# Altium integrated library MIPOT_MiP_Series.IntLib: 10 symbols
Pins are listed as number, name and electrical type; pins without a type are passive.

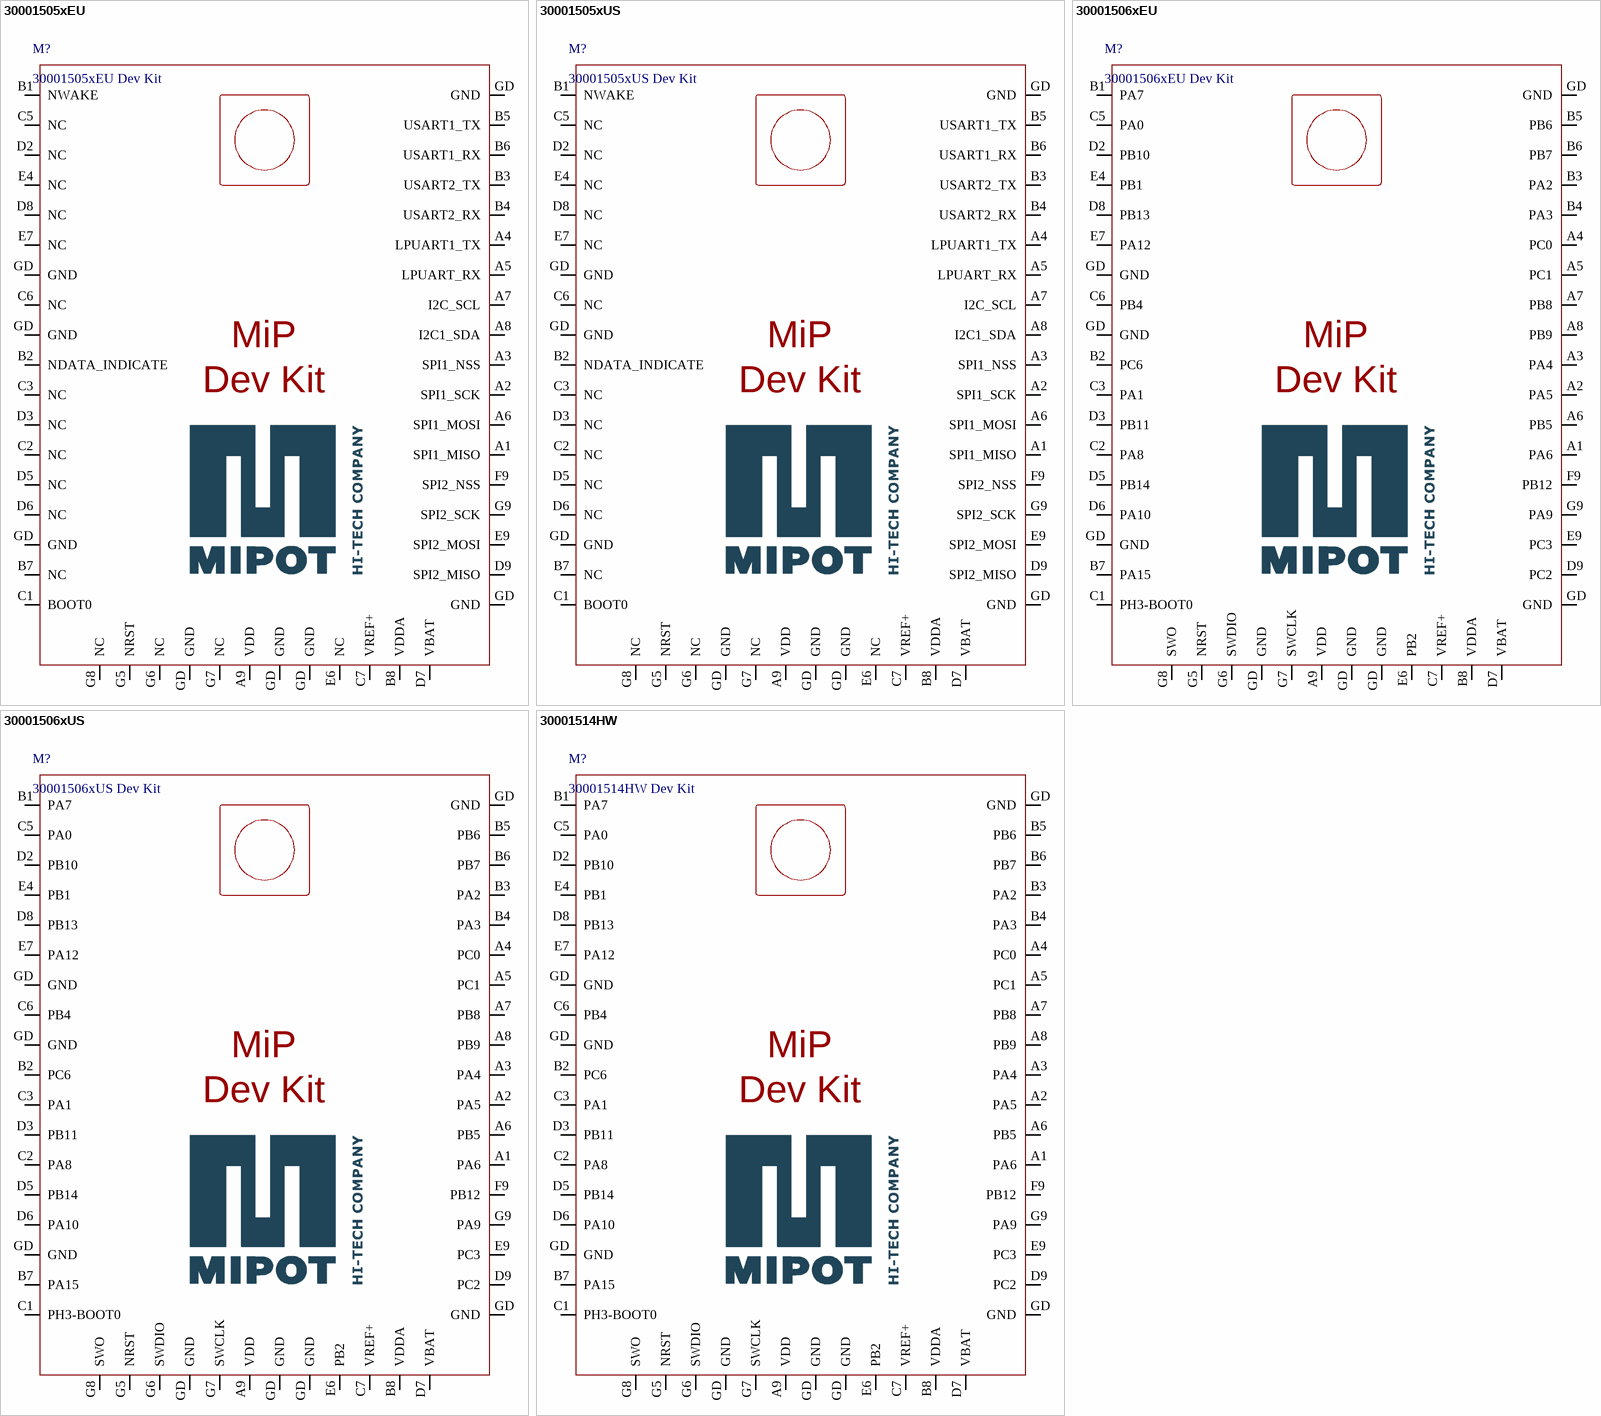
[diagram p0: symbols 30001505xEU to 30001514HW]

## 30001505xEU
designator M?, comment 30001505xEU Dev Kit
Wireless Protocol Modules MiP Series 32001505xEU Family Dev Kit; Manufacturer: MIPOT; ClassName: Dev Kit; Published: 2024
footprint 32001495_R2 (Dev Kit Mip + 2x WURTH 61301221821 + 1x WURTH 61301821821)
pins: A1 SPI1_MISO, A2 SPI1_SCK, A3 SPI1_NSS, A4 LPUART1_TX, A5 LPUART_RX, A6 SPI1_MOSI, A7 I2C_SCL, A8 I2C1_SDA, A9 VDD, B1 NWAKE, B2 NDATA_INDICATE, B3 USART2_TX, B4 USART2_RX, B5 USART1_TX, B6 USART1_RX, B7 NC, B8 VDDA, C1 BOOT0, C2 NC, C3 NC, C5 NC, C6 NC, C7 VREF+, D2 NC, D3 NC, D5 NC, D6 NC, D7 VBAT, D8 NC, D9 SPI2_MISO, E4 NC, E6 NC, E7 NC, E9 SPI2_MOSI, F9 SPI2_NSS, G5 NRST, G6 NC, G7 NC, G8 NC, G9 SPI2_SCK, GD GND, GD GND, GD GND, GD GND, GD GND, GD GND, GD GND, GD GND
text: MiP

## 30001505xUS
designator M?, comment 30001505xUS Dev Kit
Wireless Protocol Modules MiP Series 32001505xUS Family Dev Kit; Manufacturer: MIPOT; ClassName: Dev Kit; Published: 2024
footprint 32001495_R2 (Dev Kit Mip + 2x WURTH 61301221821 + 1x WURTH 61301821821)
pins: A1 SPI1_MISO, A2 SPI1_SCK, A3 SPI1_NSS, A4 LPUART1_TX, A5 LPUART_RX, A6 SPI1_MOSI, A7 I2C_SCL, A8 I2C1_SDA, A9 VDD, B1 NWAKE, B2 NDATA_INDICATE, B3 USART2_TX, B4 USART2_RX, B5 USART1_TX, B6 USART1_RX, B7 NC, B8 VDDA, C1 BOOT0, C2 NC, C3 NC, C5 NC, C6 NC, C7 VREF+, D2 NC, D3 NC, D5 NC, D6 NC, D7 VBAT, D8 NC, D9 SPI2_MISO, E4 NC, E6 NC, E7 NC, E9 SPI2_MOSI, F9 SPI2_NSS, G5 NRST, G6 NC, G7 NC, G8 NC, G9 SPI2_SCK, GD GND, GD GND, GD GND, GD GND, GD GND, GD GND, GD GND, GD GND
text: MiP

## 30001506xEU
designator M?, comment 30001506xEU Dev Kit
Wireless Protocol Modules MiP Series 32001506xEU Family Dev Kit; Manufacturer: MIPOT; ClassName: Dev Kit; Published: 2024
footprint 32001495_R2 (Dev Kit Mip + 2x WURTH 61301221821 + 1x WURTH 61301821821)
pins: A1 PA6, A2 PA5, A3 PA4, A4 PC0, A5 PC1, A6 PB5, A7 PB8, A8 PB9, A9 VDD, B1 PA7, B2 PC6, B3 PA2, B4 PA3, B5 PB6, B6 PB7, B7 PA15, B8 VDDA, C1 PH3-BOOT0, C2 PA8, C3 PA1, C5 PA0, C6 PB4, C7 VREF+, D2 PB10, D3 PB11, D5 PB14, D6 PA10, D7 VBAT, D8 PB13, D9 PC2, E4 PB1, E6 PB2, E7 PA12, E9 PC3, F9 PB12, G5 NRST, G6 SWDIO, G7 SWCLK, G8 SWO, G9 PA9, GD GND, GD GND, GD GND, GD GND, GD GND, GD GND, GD GND, GD GND
text: MiP

## 30001506xUS
designator M?, comment 30001506xUS Dev Kit
Wireless Protocol Modules MiP Series 32001506xUS Family Dev Kit; Manufacturer: MIPOT; ClassName: Dev Kit; Published: 2024
footprint 32001495_R2 (Dev Kit Mip + 2x WURTH 61301221821 + 1x WURTH 61301821821)
pins: A1 PA6, A2 PA5, A3 PA4, A4 PC0, A5 PC1, A6 PB5, A7 PB8, A8 PB9, A9 VDD, B1 PA7, B2 PC6, B3 PA2, B4 PA3, B5 PB6, B6 PB7, B7 PA15, B8 VDDA, C1 PH3-BOOT0, C2 PA8, C3 PA1, C5 PA0, C6 PB4, C7 VREF+, D2 PB10, D3 PB11, D5 PB14, D6 PA10, D7 VBAT, D8 PB13, D9 PC2, E4 PB1, E6 PB2, E7 PA12, E9 PC3, F9 PB12, G5 NRST, G6 SWDIO, G7 SWCLK, G8 SWO, G9 PA9, GD GND, GD GND, GD GND, GD GND, GD GND, GD GND, GD GND, GD GND
text: MiP

## 30001514HW
designator M?, comment 30001514HW Dev Kit
Wireless Protocol Modules MiP Series 32001514HW Dev Kit; Manufacturer: MIPOT; ClassName: Dev Kit; Published: 2024
footprint 32001495_R2 (Dev Kit Mip + 2x WURTH 61301221821 + 1x WURTH 61301821821)
pins: A1 PA6, A2 PA5, A3 PA4, A4 PC0, A5 PC1, A6 PB5, A7 PB8, A8 PB9, A9 VDD, B1 PA7, B2 PC6, B3 PA2, B4 PA3, B5 PB6, B6 PB7, B7 PA15, B8 VDDA, C1 PH3-BOOT0, C2 PA8, C3 PA1, C5 PA0, C6 PB4, C7 VREF+, D2 PB10, D3 PB11, D5 PB14, D6 PA10, D7 VBAT, D8 PB13, D9 PC2, E4 PB1, E6 PB2, E7 PA12, E9 PC3, F9 PB12, G5 NRST, G6 SWDIO, G7 SWCLK, G8 SWO, G9 PA9, GD GND, GD GND, GD GND, GD GND, GD GND, GD GND, GD GND, GD GND
text: MiP

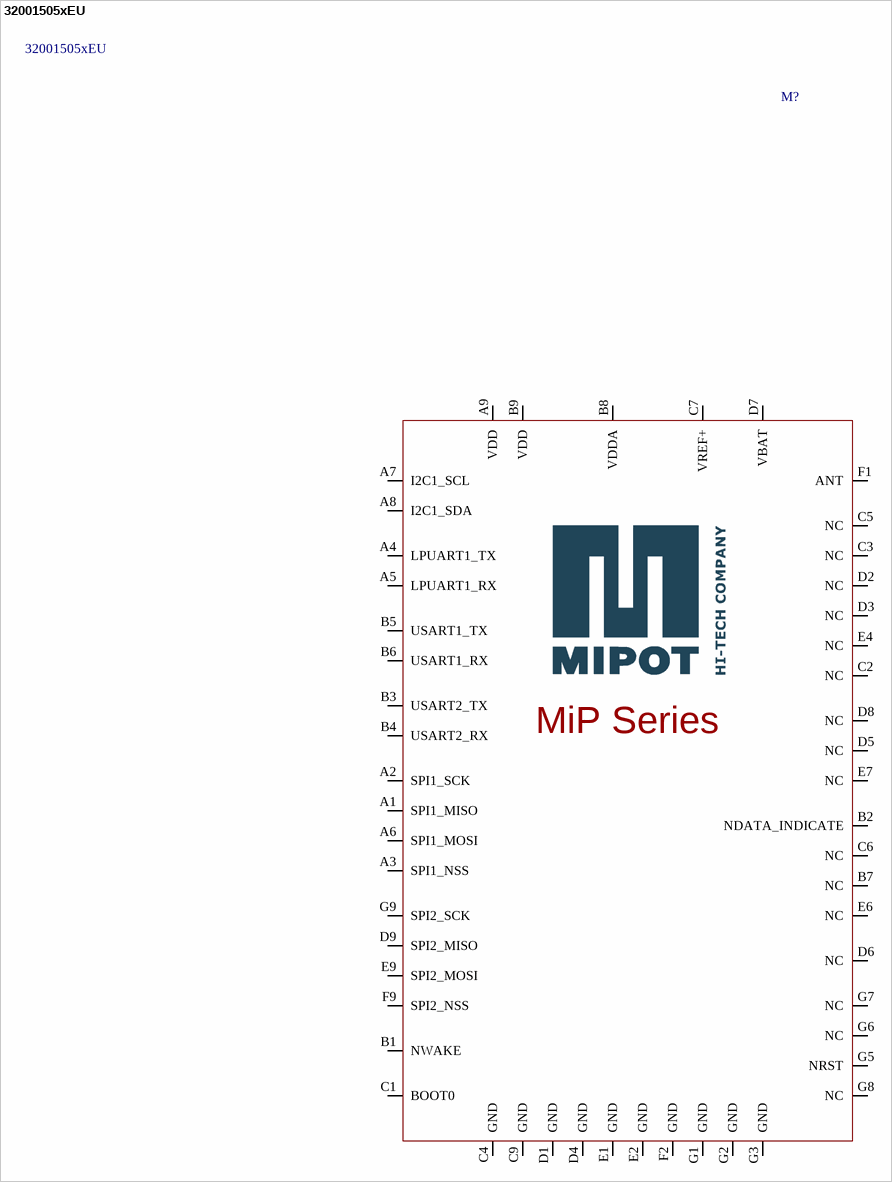
[diagram p1: symbol 32001505xEU]

## 32001505xEU
designator M?
Wireless Protocol Modules MiP Series 32001505xEU Family; Manufacturer: MIPOT; Published: 2024; ClassName: Wireless Modules
footprint 32001514_R2 (MIPOT MiP Series LGA)
pins: A1 SPI1_MISO, A2 SPI1_SCK, A3 SPI1_NSS, A4 LPUART1_TX, A5 LPUART1_RX, A6 SPI1_MOSI, A7 I2C1_SCL, A8 I2C1_SDA, A9 VDD (power), B1 NWAKE, B2 NDATA_INDICATE, B3 USART2_TX, B4 USART2_RX, B5 USART1_TX, B6 USART1_RX, B7 NC, B8 VDDA (power), B9 VDD (power), C1 BOOT0, C2 NC, C3 NC, C4 GND (power), C5 NC, C6 NC, C7 VREF+, C9 GND (power), D1 GND (power), D2 NC, D3 NC, D4 GND (power), D5 NC, D6 NC, D7 VBAT, D8 NC, D9 SPI2_MISO, E1 GND (power), E2 GND (power), E4 NC, E6 NC, E7 NC, E9 SPI2_MOSI, F1 ANT, F2 GND (power), F9 SPI2_NSS, G1 GND (power), G2 GND (power), G3 GND (power), G5 NRST, G6 NC, G7 NC, G8 NC, G9 SPI2_SCK
text: MiP Series

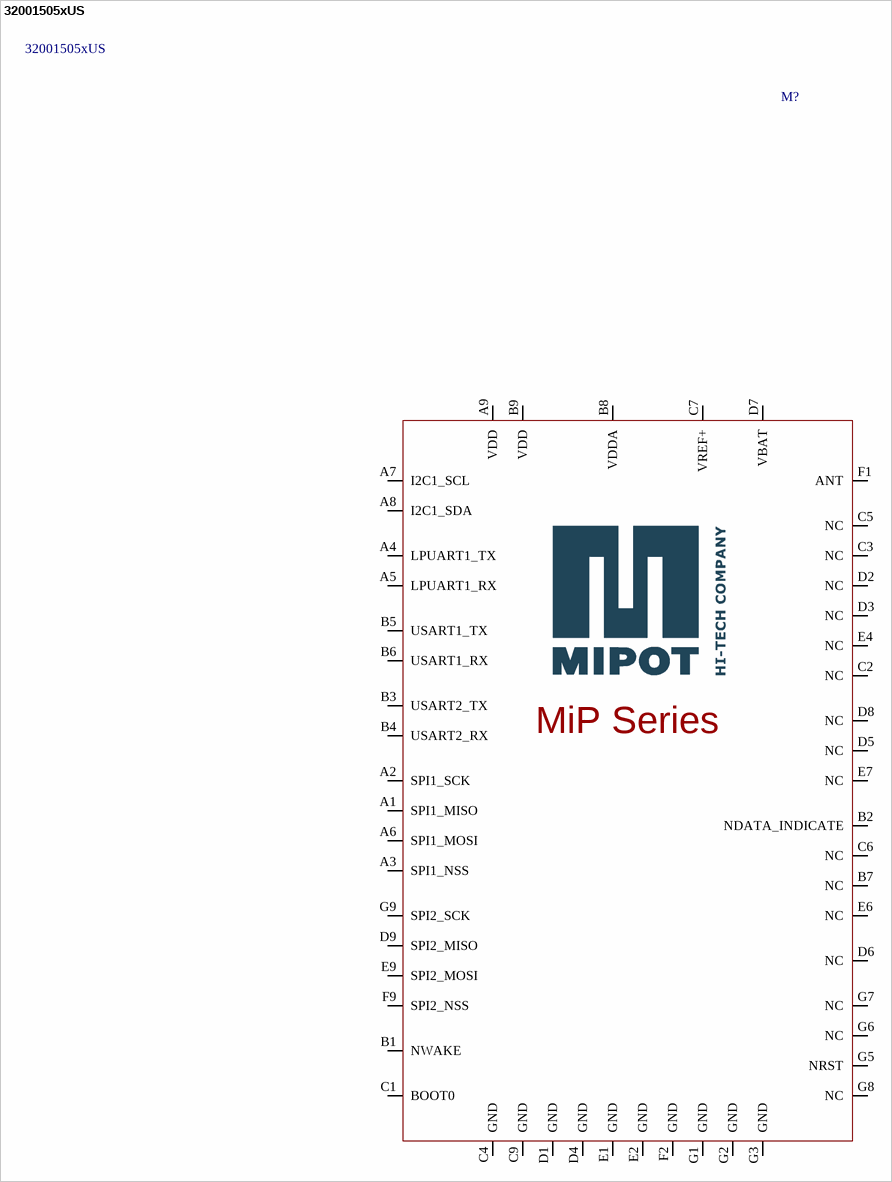
[diagram p2: symbol 32001505xUS]

## 32001505xUS
designator M?
Wireless Protocol Modules MiP Series 32001505xUS Family; Manufacturer: MIPOT; Published: 2024; ClassName: Wireless Modules
footprint 32001514_R2 (MIPOT MiP Series LGA)
pins: A1 SPI1_MISO, A2 SPI1_SCK, A3 SPI1_NSS, A4 LPUART1_TX, A5 LPUART1_RX, A6 SPI1_MOSI, A7 I2C1_SCL, A8 I2C1_SDA, A9 VDD (power), B1 NWAKE, B2 NDATA_INDICATE, B3 USART2_TX, B4 USART2_RX, B5 USART1_TX, B6 USART1_RX, B7 NC, B8 VDDA (power), B9 VDD (power), C1 BOOT0, C2 NC, C3 NC, C4 GND (power), C5 NC, C6 NC, C7 VREF+, C9 GND (power), D1 GND (power), D2 NC, D3 NC, D4 GND (power), D5 NC, D6 NC, D7 VBAT, D8 NC, D9 SPI2_MISO, E1 GND (power), E2 GND (power), E4 NC, E6 NC, E7 NC, E9 SPI2_MOSI, F1 ANT, F2 GND (power), F9 SPI2_NSS, G1 GND (power), G2 GND (power), G3 GND (power), G5 NRST, G6 NC, G7 NC, G8 NC, G9 SPI2_SCK
text: MiP Series

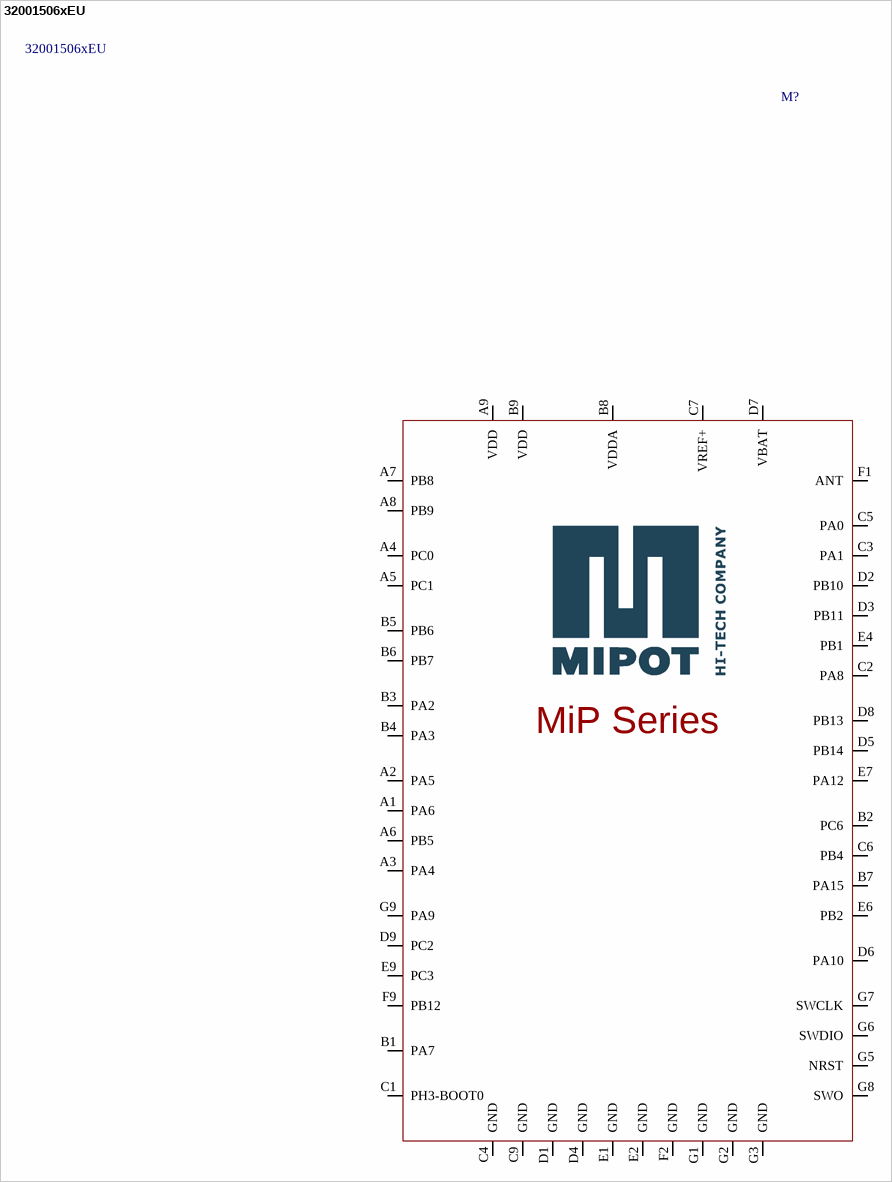
[diagram p3: symbol 32001506xEU]

## 32001506xEU
designator M?
Wireless Protocol Modules MiP Series 32001506xEU Family; Manufacturer: MIPOT; Published: 2024; ClassName: Wireless Modules
footprint 32001514_R2 (MIPOT MiP Series LGA)
pins: A1 PA6, A2 PA5, A3 PA4, A4 PC0, A5 PC1, A6 PB5, A7 PB8, A8 PB9, A9 VDD (power), B1 PA7, B2 PC6, B3 PA2, B4 PA3, B5 PB6, B6 PB7, B7 PA15, B8 VDDA (power), B9 VDD (power), C1 PH3-BOOT0, C2 PA8, C3 PA1, C4 GND (power), C5 PA0, C6 PB4, C7 VREF+, C9 GND (power), D1 GND (power), D2 PB10, D3 PB11, D4 GND (power), D5 PB14, D6 PA10, D7 VBAT, D8 PB13, D9 PC2, E1 GND (power), E2 GND (power), E4 PB1, E6 PB2, E7 PA12, E9 PC3, F1 ANT, F2 GND (power), F9 PB12, G1 GND (power), G2 GND (power), G3 GND (power), G5 NRST, G6 SWDIO, G7 SWCLK, G8 SWO, G9 PA9
text: MiP Series

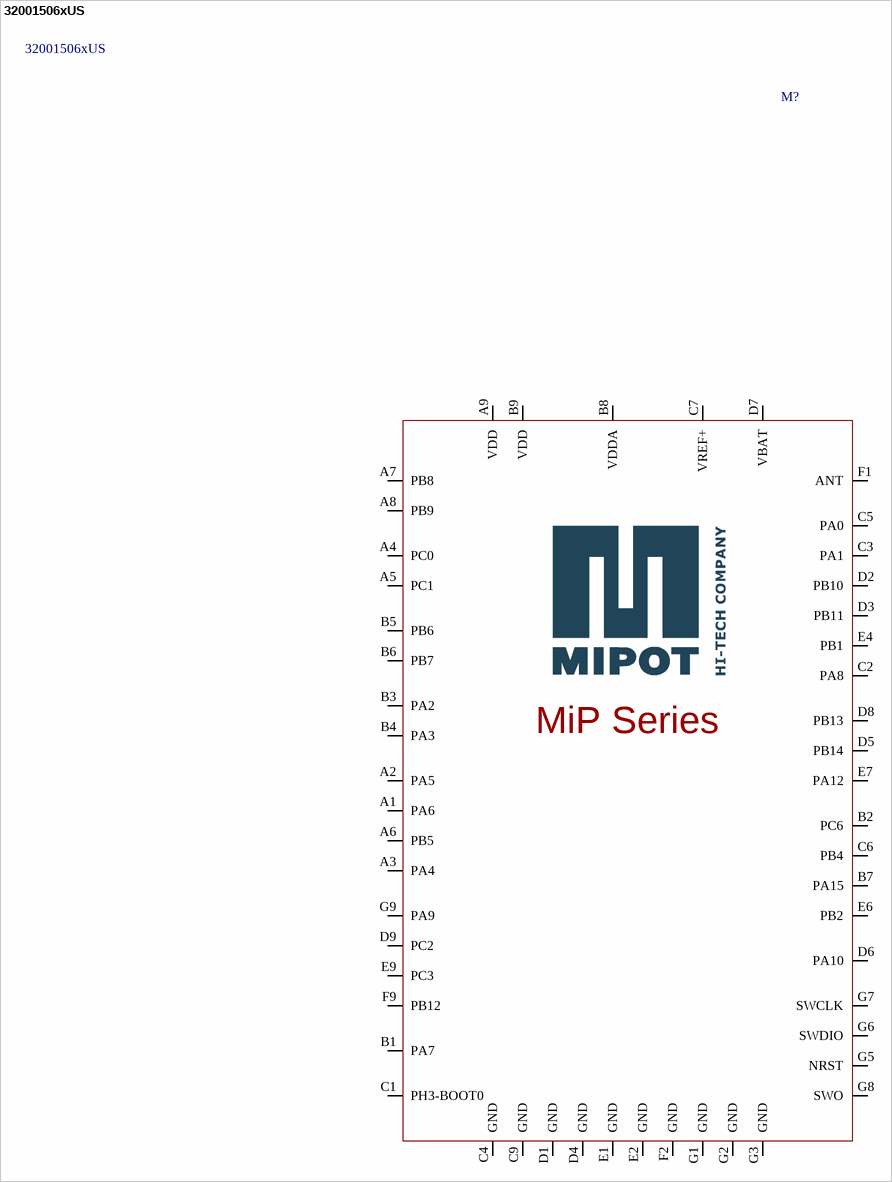
[diagram p4: symbol 32001506xUS]

## 32001506xUS
designator M?
Wireless Protocol Modules MiP Series 32001506xUS Family; Manufacturer: MIPOT; Published: 2024; ClassName: Wireless Modules
footprint 32001514_R2 (MIPOT MiP Series LGA)
pins: A1 PA6, A2 PA5, A3 PA4, A4 PC0, A5 PC1, A6 PB5, A7 PB8, A8 PB9, A9 VDD (power), B1 PA7, B2 PC6, B3 PA2, B4 PA3, B5 PB6, B6 PB7, B7 PA15, B8 VDDA (power), B9 VDD (power), C1 PH3-BOOT0, C2 PA8, C3 PA1, C4 GND (power), C5 PA0, C6 PB4, C7 VREF+, C9 GND (power), D1 GND (power), D2 PB10, D3 PB11, D4 GND (power), D5 PB14, D6 PA10, D7 VBAT, D8 PB13, D9 PC2, E1 GND (power), E2 GND (power), E4 PB1, E6 PB2, E7 PA12, E9 PC3, F1 ANT, F2 GND (power), F9 PB12, G1 GND (power), G2 GND (power), G3 GND (power), G5 NRST, G6 SWDIO, G7 SWCLK, G8 SWO, G9 PA9
text: MiP Series

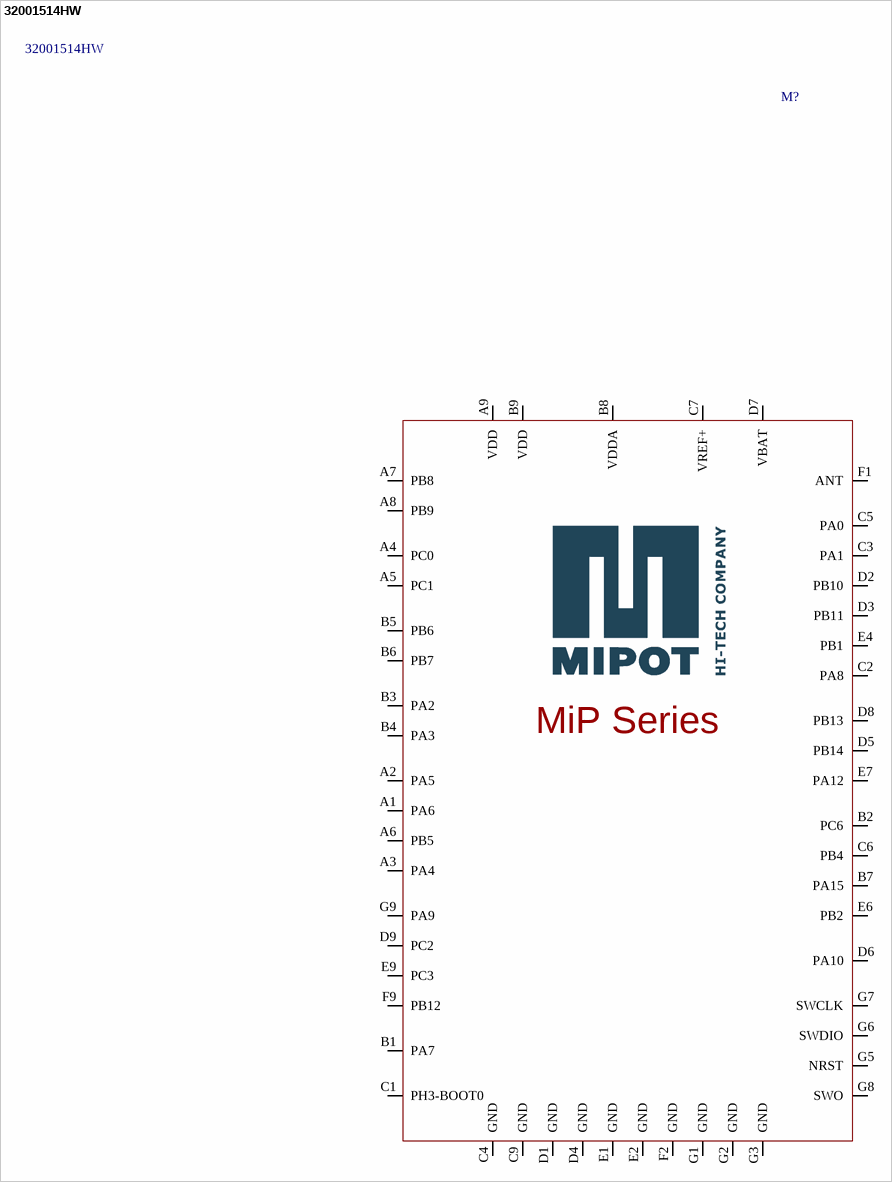
[diagram p5: symbol 32001514HW]

## 32001514HW
designator M?
Wireless Protocol Modules MiP Series 32001514HW; Manufacturer: MIPOT; Published: 2024; ClassName: Wireless Modules
footprint 32001514_R2 (MIPOT MiP Series LGA)
pins: A1 PA6, A2 PA5, A3 PA4, A4 PC0, A5 PC1, A6 PB5, A7 PB8, A8 PB9, A9 VDD (power), B1 PA7, B2 PC6, B3 PA2, B4 PA3, B5 PB6, B6 PB7, B7 PA15, B8 VDDA (power), B9 VDD (power), C1 PH3-BOOT0, C2 PA8, C3 PA1, C4 GND (power), C5 PA0, C6 PB4, C7 VREF+, C9 GND (power), D1 GND (power), D2 PB10, D3 PB11, D4 GND (power), D5 PB14, D6 PA10, D7 VBAT, D8 PB13, D9 PC2, E1 GND (power), E2 GND (power), E4 PB1, E6 PB2, E7 PA12, E9 PC3, F1 ANT, F2 GND (power), F9 PB12, G1 GND (power), G2 GND (power), G3 GND (power), G5 NRST, G6 SWDIO, G7 SWCLK, G8 SWO, G9 PA9
text: MiP Series